# Altium footprint library BC847BS-TP.PcbLib: 1 footprints
Each footprint in its own frame and in the unit in brackets; x right, y up, seen from the top. Pads: shape width x height; smd on the part's side, far side on the other; paste and mask are expansions set on the pad; w line width, h text height; cw(c..) or ccw(c..) is an arc to the next point about the centre after c.
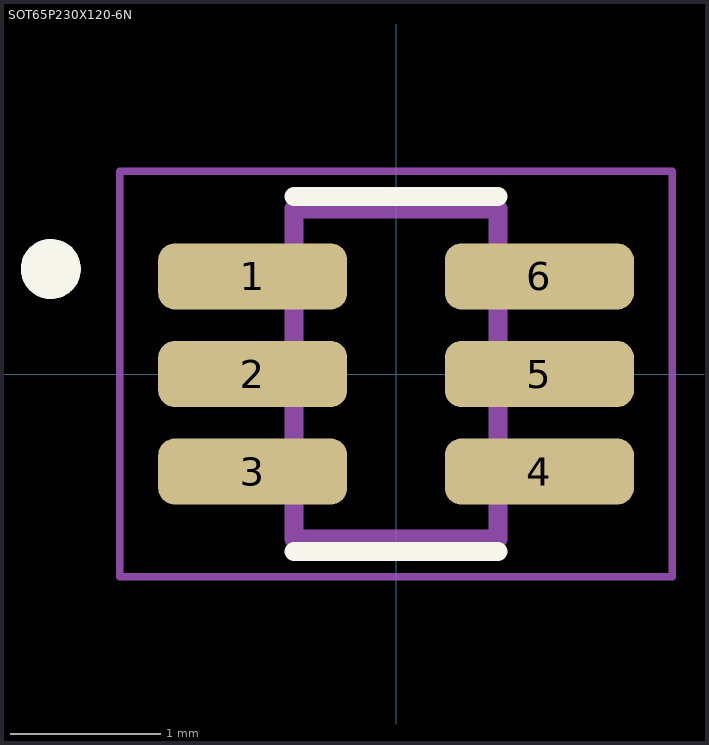
[diagram p0: the footprint, top view; thin cyan lines are the x and y axes]

## SOT65P230X120-6N [mm]
pads (6):
  rrect50% 1.26x0.44 smd: 1(-0.955,0.65) 2(-0.955,0) 3(-0.955,-0.65) 4(0.955,-0.65) 5(0.955,0) 6(0.955,0.65)
Top Overlay:
  circle w0.2: c-2.3,0.7 r0.1
  lines w0.127: -0.68,-1.184 0.68,-1.184 ; -0.68,1.184 0.68,1.184
Mechanical 13:
  circle w0.2: c-2.3,0.7 r0.1
  lines w0.127: -0.68,-1.1 -0.68,1.1 0.68,1.1 0.68,-1.1 -0.68,-1.1
Mechanical 15:
  lines w0.05: -1.84,-1.35 -1.84,1.35 1.84,1.35 1.84,-1.35 -1.84,-1.35